# Altium schematic symbol library SD2114S040S8R0.SchLib: 1 symbol
Pins are listed as number, name and electrical type; pins without a type are passive.

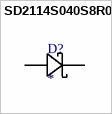
[diagram p0: symbol SD2114S040S8R0]

## SD2114S040S8R0
designator D?
DIODE SCHOTTKY 40V 8A SMB / Manufacturer PN: SD2114S040S8R0
footprint SD2114
pins: 1, 2